# EAGLE library part IDC-10-50MIL (library greg)
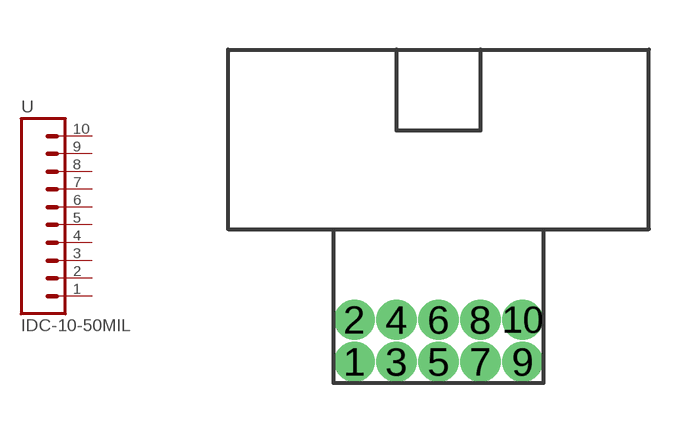
[diagram p21: symbol with the pads of IDC-2X10-50MIL; footprint IDC-2X10-50MIL]

Designator prefix -

## IDC-10-50MILRA  [IDC-2X10-50MIL]
1  1  pas
2  2  pas
3  3  pas
4  4  pas
5  5  pas
6  6  pas
7  7  pas
8  8  pas
9  9  pas
10  10  pas

## Footprint IDC-2X10-50MIL (pad centres in mm)
drill 0.711 pad 1.016: 1 -2.54,-0.635; 2 -2.54,0.635; 3 -1.27,-0.635; 4 -1.27,0.635; 5 0,-0.635; 6 0,0.635; 7 1.27,-0.635; 8 1.27,0.635; 9 2.54,-0.635; 10 2.54,0.635